# Altium footprint library SFV14R3STBE1HLF.PcbLib: 1 footprints
Each footprint in its own frame and in the unit in brackets; x right, y up, seen from the top. Pads: shape width x height; smd on the part's side, far side on the other; paste and mask are expansions set on the pad; w line width, h text height; cw(c..) or ccw(c..) is an arc to the next point about the centre after c.
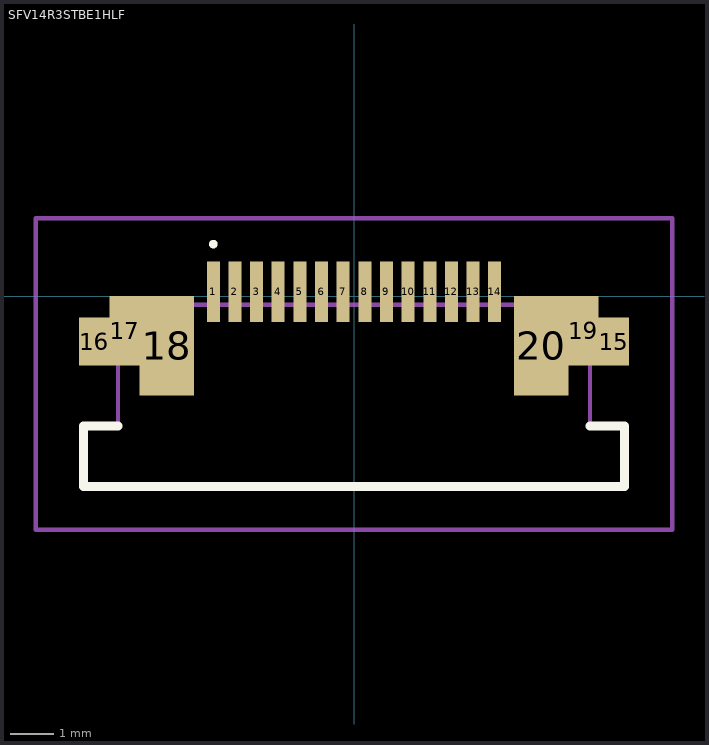
[diagram p0: the footprint, top view; thin cyan lines are the x and y axes]

## SFV14R3STBE1HLF [mm]
pads (20):
  rect 0.3x1.4 smd: 1(-3.25,0.1) 2(-2.75,0.1) 3(-2.25,0.1) 4(-1.75,0.1) 5(-1.25,0.1) 6(-0.75,0.1) 7(-0.25,0.1) 8(0.25,0.1) 9(0.75,0.1) 10(1.25,0.1) 11(1.75,0.1) 12(2.25,0.1) 13(2.75,0.1) 14(3.25,0.1)
  rect 0.7x1.1 smd: 15(6,-1.05) 16(-6,-1.05)
  rect 0.7x1.6 smd: 17(-5.3,-0.8) 19(5.3,-0.8)
  rect 1.25x2.3 smd: 18(-4.325,-1.15) 20(4.325,-1.15)
Top Overlay:
  lines w0.1: -3.25,1.15 cw(c-3.25,1.2) -3.25,1.25 ; -3.25,1.15 -3.25,1.15 ; -3.25,1.15 ccw(c-3.25,1.2) -3.25,1.25 ; -3.25,1.25 -3.25,1.25
  lines w0.2: -5.45,-3 -6.25,-3 -6.25,-4.4 6.25,-4.4 6.25,-3 5.45,-3
Mechanical 15:
  lines w0.1: -6.25,-4.4 -6.25,-3 -5.45,-3 -5.45,-0.2 5.45,-0.2 5.45,-3 6.25,-3 6.25,-4.4 0,-4.4 -6.25,-4.4
Mechanical 20:
  lines w0.1: -7.35,-5.4 7.35,-5.4 7.35,1.8 -7.35,1.8 -7.35,-5.4